# Altium footprint library custom-case.PcbLib: 16 footprints
Each footprint in its own frame and in the unit in brackets; x right, y up, seen from the top. Pads: shape width x height; smd on the part's side, far side on the other; paste and mask are expansions set on the pad; w line width, h text height; cw(c..) or ccw(c..) is an arc to the next point about the centre after c.
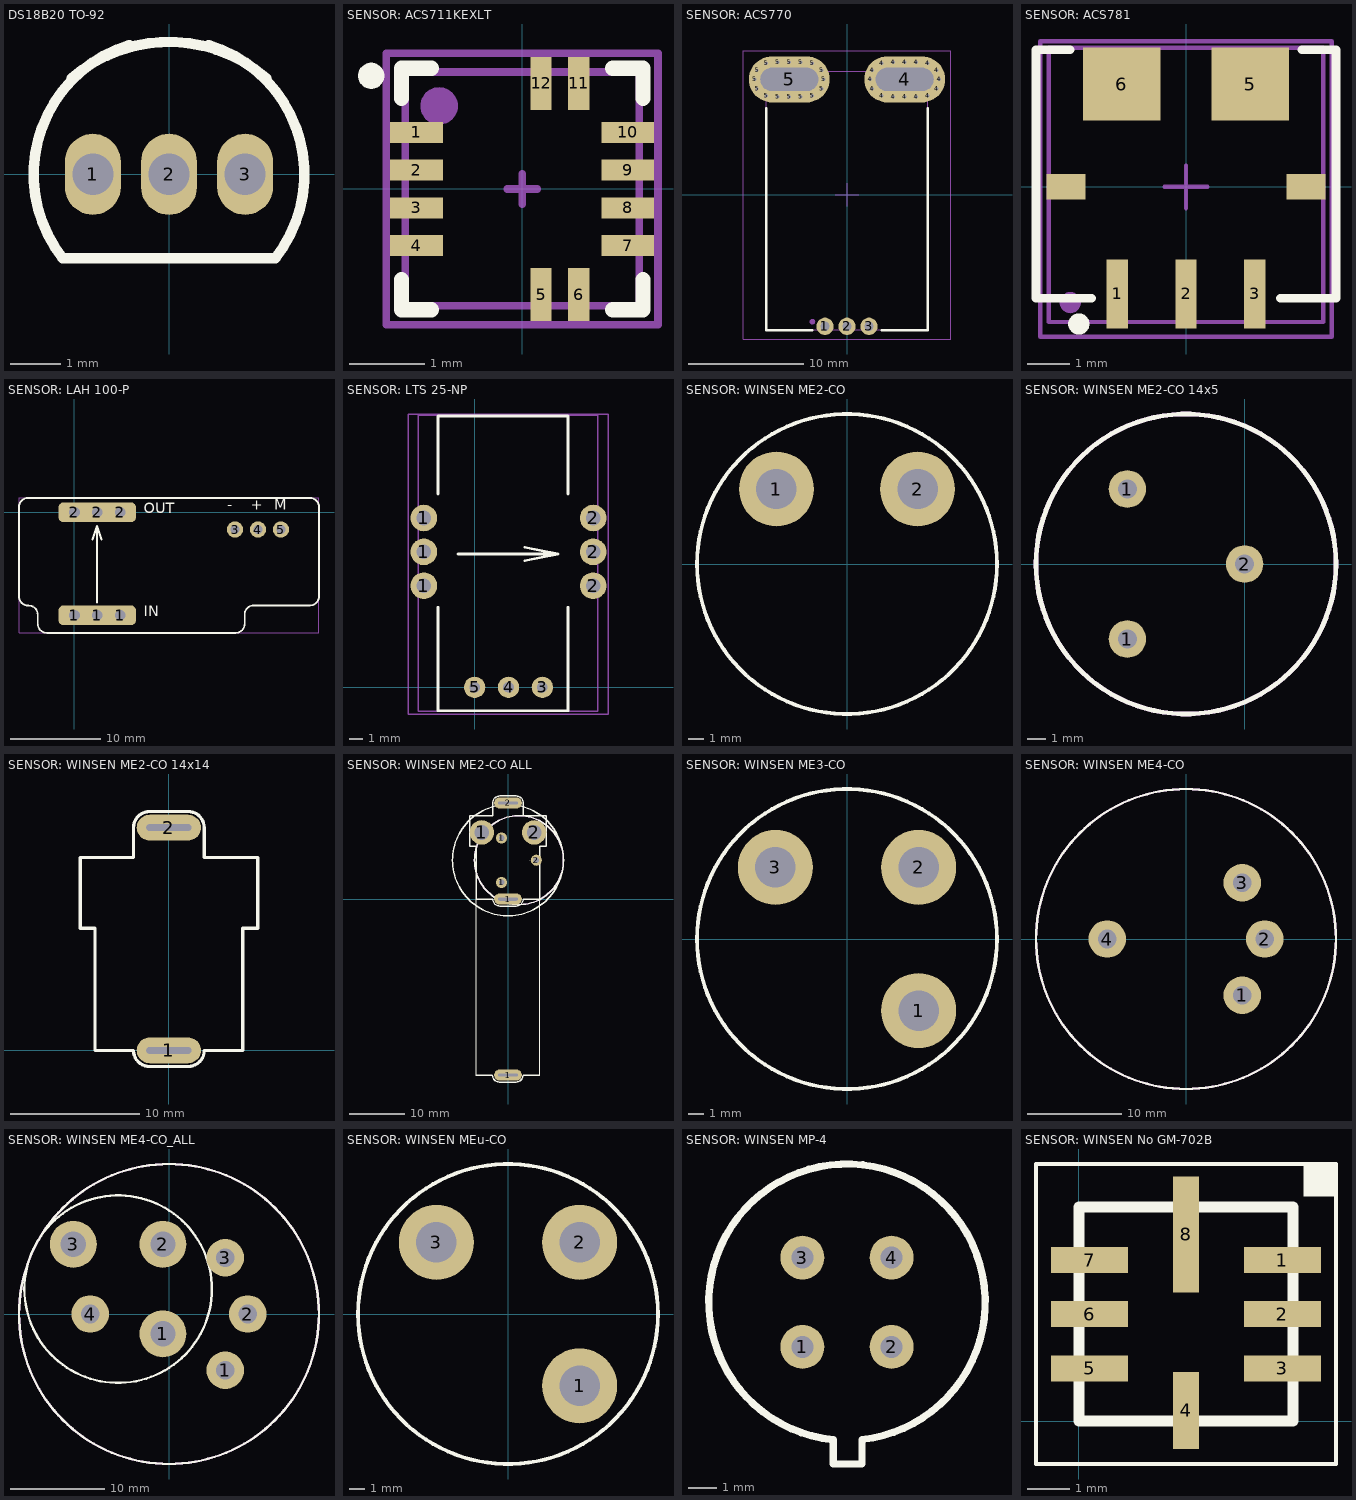
[diagram p0: the footprints below, top view; thin cyan lines are the x and y axes]

## DS18B20 TO-92 [mm]
pads (3):
  oval 1.1x1.6 hole 0.813 mask+0.102: 1(-1.5,0) 2(0,0) 3(1.5,0)
Top Overlay:
  lines w0.203: -2.102,-1.642 cw(c0,0) -0.78,2.551 ; -2.094,-1.651 2.094,-1.651 ; -1.92,1.892 cw(c0,-0.318) 0.658,2.535 ; -0.658,2.535 cw(c0,-0.318) 0.658,2.535 ; 0.78,2.55 cw(c0,0) 2.102,-1.642 ; 1.92,1.892 ccw(c0,-0.318) 0.658,2.535
3D body "step_temp.STEP": height 16.45, standoff -4, extent -2.277,-1.143 2.277,2.476

## SENSOR: ACS711KEXLT [mm]
pads (14):
  rect 0.7x0.28 smd: 1(-1.4,0.75) 2(-1.4,0.25) 3(-1.4,-0.25) 4(-1.4,-0.75) 7(1.4,-0.75) 8(1.4,-0.25) 9(1.4,0.25) 10(1.4,0.75)
  rect 0.28x0.7 smd: 5(0.25,-1.4) 6(0.75,-1.4) 11(0.75,1.4) 12(0.25,1.4)
  round 0.35 on Top Overlay: ""(-2,1.5)
  round 0.5 on Mech1: ""(-1.1,1.1)
Top Overlay:
  lines w0.2: -1.6,-1.2 -1.6,-1.6 -1.2,-1.6 ; -1.6,1.2 -1.6,1.6 -1.2,1.6 ; 1.2,-1.6 1.6,-1.6 1.6,-1.2 ; 1.2,1.6 1.6,1.6 1.6,1.2
Top Assy:
  lines w0.1: -1.55,-1.55 1.55,-1.55 1.55,1.55 -1.55,1.55 -1.55,-1.55
Size Area:
  lines w0.1: -0.2,0 0.2,0 ; 0,-0.2 0,0.2 ; -1.8,-1.8 -1.8,1.8 1.8,1.8 1.8,-1.8 -1.8,-1.8
3D body "User Library-QFN-16.STEP": height 0.9, standoff 0, extent -1.501,-1.501 1.501,1.501

## SENSOR: ACS770 [mm]
pads (38):
  round 1.5 hole 0.8: 1(-1.91,-11.4) 2(0,-11.4) 3(1.91,-11.4)
  round 0.5 on Mech1: 4(-3,-11)
  round 0.7 hole 0.3: 4(2,10) 4(2.2,9.2) 4(2.2,10.8) 4(3,8.6) 4(3,11.4) 4(4,8.5) 4(4,11.5) 4(5,8.5) 4(5,11.5) 4(6,8.5) 4(6,11.5) 4(7,8.6) 4(7,11.4) 4(7.8,9.2) 4(7.8,10.8) 4(8,10) 5(-8,10) 5(-7.8,9.2) 5(-7.8,10.8) 5(-7,8.6) 5(-7,11.4) 5(-6,8.5) 5(-6,11.5) 5(-5,8.5) 5(-5,11.5) 5(-4,8.5) 5(-4,11.5) 5(-3,8.6) 5(-3,11.4) 5(-2.2,9.2) 5(-2.2,10.8) 5(-2,10)
  oval 7x4 hole 2 slot 5 at 0 deg: 4(5,10) 5(-5,10)
Top Overlay:
  lines w0.2: -7,7.5 -7,-11.75 -3,-11.75 ; 3,-11.75 7,-11.75 7,7.5
Top Assy:
  lines w0.1: -7,-11.705 -7,10.705 7,10.705 7,-11.705 -7,-11.705
Size Area:
  lines w0.1: -1,0 1,0 ; 0,-1 0,1 ; -9,-12.5 -9,12.5 9,12.5 9,-12.5 ; -9,-12.5 9,-12.5 ; -9,-12.5 9,-12.5
3D body "User Library-ACS758xCB-PFF.STEP": height 7.5, standoff -2.98, extent -7,-11.705 7,10.705

## SENSOR: ACS781 [mm]
pads (9):
  rect 0.5x1.6 smd: 1(-1.6,-2.5) 2(0,-2.5) 3(1.6,-2.5)
  rect 1.8x1.7 smd: 5(1.5,2.4) 6(-1.5,2.4)
  rect 0.9x0.6 smd: ""(-2.8,0) ""(2.8,0)
  round 0.5 on Mech1: ""(-2.7,-2.7)
  round 0.5 on Top Overlay: ""(-2.5,-3.2)
Top Overlay:
  lines w0.2: -2.7,3.2 -3.5,3.2 -3.5,-2.6 -2.2,-2.6 ; 2.2,-2.6 3.5,-2.6 3.5,3.2 2.7,3.2
Top Assy:
  lines w0.1: -3.2,-3.154 3.2,-3.154 3.2,3.246 -3.2,3.246 -3.2,-3.154
Size Area:
  lines w0.1: -0.5,0 0.5,0 ; 0,-0.5 0,0.5 ; -3.4,-3.5 -3.4,3.4 3.4,3.4 3.4,-3.5 -3.4,-3.5
3D body "User Library-7-Pin PSOF Package.STEP": height 1.46, standoff -0.02, extent -3.2,-3.154 3.2,3.246

## SENSOR: LAH 100-P [mm]
pads (9):
  rrect50% 3.5x2.2 hole 1.2 square: 1(0,-11.4) 1(2.54,-11.4) 1(5.08,-11.4) 2(0,0) 2(2.54,0) 2(5.08,0)
  round 1.8 hole 1: 3(17.78,-1.905) 4(20.32,-1.905) 5(22.86,-1.905)
Top Overlay:
  lines w0.2: -6.125,0.595 cw(c-5.125,0.595) -5.125,1.595 26.075,1.595 cw(c26.075,0.595) 27.075,0.595 27.075,-9.302 ; -6.125,0.6 -6.125,-9.325 ccw(c-5.125,-9.325) -5.125,-10.325 -5.05,-10.325 cw(c-5.05,-11.325) -4.05,-11.325 -4.05,-12.345 ccw(c-3.05,-12.345) -3.05,-13.345 17.85,-13.345 ccw(c17.85,-12.345) 18.85,-12.345 18.85,-11.3 cw(c19.85,-11.3) 19.85,-10.3 26.075,-10.3 ccw(c26.075,-9.3) 27.075,-9.3 ; 2,-3 2.5,-1.5 ; 2.5,-10 2.5,-1.5 ; 3,-3 2.5,-1.5
  text "M" at 22.1,-0.1 h2
  text "+" at 19.5,-0.1 h2
  text "-" at 16.9,-0.1 h2
  text "OUT" at 7.7,-0.5 h2
  text "IN" at 7.7,-11.9 h2
Top Assy:
  lines w0.1: -6.125,-13.345 27.075,-13.345 27.075,1.595 -6.125,1.595 -6.125,-13.345
Size Area:
  lines w0.1: -6.125,-13.345 27.075,-13.345 27.075,1.595 -6.125,1.595 -6.125,-13.345
3D body "TransCurrent v4.step": height 20.15, standoff -4.45, extent -6.125,-13.345 27.075,1.595

## SENSOR: LTS 25-NP [mm]
pads (9):
  round 2 hole 1.1: 1(-3.81,7.62) 1(-3.81,10.16) 1(-3.81,12.7) 2(8.89,7.62) 2(8.89,10.16) 2(8.89,12.7)
  round 1.6 hole 0.8: 3(5.08,0) 4(2.54,0) 5(0,0)
Top Overlay:
  lines w0.2: -2.75,6 -2.75,-1.75 7,-1.75 7,6 ; -2.75,14.5 -2.75,20.35 7,20.35 7,14.5 ; -1.25,10 6.25,10 ; 3.75,9.5 6.25,10 ; 3.75,10.5 6.25,10
Top Assy:
  lines w0.1: -4.25,-1.8 9.25,-1.8 9.25,20.4 -4.25,20.4 -4.25,-1.8
Size Area:
  lines w0.1: -5,-2 10,-2 10,20.5 -5,20.5 -5,-2
3D body "User Library-LTS6_NP.STEP": height 24, standoff -3.5, extent -4.25,-1.8 9.25,20.4

## SENSOR: WINSEN ME2-CO [mm] "Flammable gas sensor"
pads (2):
  round 5 hole 2.7: 1(-4.7,5) 2(4.7,5)
Top Overlay:
  circle w0.254: c0,0 r10
3D body "WINSEN ME2-CO.STEP": height 16.5, standoff -4.05, extent -10,-10 10,10

## SENSOR: WINSEN ME2-CO 14x5 [mm] "Flammable gas sensor"
pads (3):
  round 2 hole 1: 1(-6.25,-4) 1(-6.25,4) 2(0,0)
Top Overlay:
  circle w0.254: c-3.125,0 r8
Size Area:
  circle w0.254: c-3.125,0 r8

## SENSOR: WINSEN ME2-CO 14x14 [mm] "Carbon Monoxide sensor"
pads (2):
  oval 5x2 hole 0.5 slot 3.5 at 0 deg: 1(0,0) 2(0,17.32)
Top Overlay:
  lines w0.254: -2.75,-0.018 ccw(c-1.5,0) -1.5,-1.25 1.5,-1.25 ccw(c1.5,0) 2.75,-0.018 ; -2.75,-0.01 -5.75,-0.01 -5.75,8.66 -5.75,9.5 -6.88,9.5 -6.88,12.25 -6.88,15 -2.75,15 -2.75,17.32 cw(c-1.5,17.32) -1.5,18.57 1.5,18.57 cw(c1.5,17.32) 2.75,17.32 2.75,15 6.9,15 6.9,12.25 6.9,9.5 5.75,9.5 5.75,8.66 ; 2.75,-0.01 5.75,-0.01 5.75,8.66
Multi-Layer:
  pour cut-out: -1.5,14.32 1.5,14.32 1.736,14.32 2.203,14.394 2.652,14.54 3.072,14.754 3.454,15.032 3.788,15.366 4.066,15.748 4.28,16.168 4.426,16.617 4.5,17.084 4.5,17.556 4.426,18.023 4.28,18.472 4.066,18.892 3.788,19.274 3.454,19.608 3.072,19.886 2.652,20.1 2.203,20.246 1.736,20.32 1.5,20.32 -1.5,20.32 -1.736,20.32 -2.203,20.246 -2.652,20.1 -3.072,19.886 -3.454,19.608 -3.788,19.274 -4.066,18.892 -4.28,18.472 -4.426,18.023 -4.5,17.556 -4.5,17.084 -4.426,16.617 -4.28,16.168 -4.066,15.748 -3.788,15.366 -3.454,15.032 -3.072,14.754 -2.652,14.54 -2.203,14.394 -1.736,14.32
  pour cut-out: -1.5,-3 1.5,-3 1.736,-3 2.203,-2.926 2.652,-2.78 3.072,-2.566 3.454,-2.288 3.788,-1.954 4.066,-1.572 4.28,-1.152 4.426,-0.703 4.5,-0.236 4.5,0.236 4.426,0.703 4.28,1.152 4.066,1.572 3.788,1.954 3.454,2.288 3.072,2.566 2.652,2.78 2.203,2.926 1.736,3 1.5,3 -1.5,3 -1.736,3 -2.203,2.926 -2.652,2.78 -3.072,2.566 -3.454,2.288 -3.788,1.954 -4.066,1.572 -4.28,1.152 -4.426,0.703 -4.5,0.236 -4.5,-0.236 -4.426,-0.703 -4.28,-1.152 -4.066,-1.572 -3.788,-1.954 -3.454,-2.288 -3.072,-2.566 -2.652,-2.78 -2.203,-2.926 -1.736,-3
3D body "WINSENCO.SLDPRT": height 13.99, standoff -1.09, extent -6.997,0 6.997,17.505

## SENSOR: WINSEN ME2-CO ALL [mm] "Carbon Monoxide sensor"
pads (8):
  round 4.4 hole 2.65: 1(-4.7,12) 2(4.7,12)
  round 2 hole 1: 1(-1.156,3) 1(-1.156,11) 2(5.094,7)
  oval 5x2 hole 0.5 slot 3.5 at 0 deg: 1(0,-31.68) 1(0,0) 2(0,17.32)
Top Overlay:
  circle w0.254: c1.969,7 r8
  circle w0.254: c0,7 r10
  lines w0.01: 3.806,7.004 3.815,7.004
  lines w0.2: -5.791,-31.68 -5.75,-31.68 -5.75,-0.01 ; 5.708,-31.68 5.75,-31.68 5.75,-0.01
  lines w0.254: -5.791,-31.68 -2.791,-31.68 ; -2.791,-31.688 ccw(c-1.541,-31.67) -1.541,-32.92 1.459,-32.92 ccw(c1.459,-31.67) 2.709,-31.688 ; -2.75,-0.018 ccw(c-1.5,0) -1.5,-1.25 1.5,-1.25 ccw(c1.5,0) 2.75,-0.018 ; -2.75,-0.01 -5.75,-0.01 -5.75,8.66 -5.75,9.5 -6.88,9.5 -6.88,12.25 -6.88,15 -2.75,15 -2.75,17.32 cw(c-1.5,17.32) -1.5,18.57 1.5,18.57 cw(c1.5,17.32) 2.75,17.32 2.75,15 6.9,15 6.9,12.25 6.9,9.5 ; 2.709,-31.68 5.708,-31.68 ; 2.75,-0.01 5.75,-0.01 5.75,8.66 ; 5.75,8.66 5.75,9.5 6.88,9.5
Top Paste:
  lines w0.01: -2.426,2.853 cw(c-1.156,3) 0.123,3 ; 0.123,-3.009 -1.5,-3.009 -1.5,-3.014 1.5,-3.014 1.5,-3.009 ; 0.123,3.009 1.5,3.009
Size Area:
  circle w0.254: c1.969,7 r8
Multi-Layer:
  drawing of 5 lines, arcs and shapes, not listed
3D body "WINSEN ME2-CO.STEP": height 16.5, standoff -4.05, extent -10,-3 10,17

## SENSOR: WINSEN ME3-CO [mm] "Flammable gas sensor"
pads (3):
  round 5 hole 2.7: 1(4.775,-4.775) 2(4.775,4.775) 3(-4.775,4.775)
Top Overlay:
  circle w0.254: c0,0 r10
3D body "Model_MEu-CO.STEP": height 3.2, standoff -17.5, extent -10,-10 10,10

## SENSOR: WINSEN ME4-CO [mm] "Flammable gas sensor"
pads (4):
  round 4 hole 2: 1(6,-6) 2(8.4,0) 3(6,6) 4(-8.4,0)
Top Overlay:
  circle w0.254: c0,0 r16
Size Area:
  circle w0.254: c0,0 r16
3D body "Model_ME4-CO.STEP": height 16, standoff -3.7, extent -15.886,-15.951 16.114,16.049

## SENSOR: WINSEN ME4-CO_ALL [mm] "Flammable gas sensor"
pads (7):
  round 5 hole 2.7: 1(-0.648,-2.121) 2(-0.648,7.429) 3(-10.198,7.429)
  round 4 hole 2: 1(6,-6) 2(8.4,0) 3(6,6) 4(-8.4,0)
Top Overlay:
  circle w0.254: c0,0 r16
  circle w0.254: c-5.423,2.654 r10
Size Area:
  circle w0.254: c0,0 r16
3D body "Model_ME4-CO.STEP": height 16, standoff -3.7, extent -15.886,-15.951 16.114,16.049

## SENSOR: WINSEN MEu-CO [mm] "Flammable gas sensor"
pads (3):
  round 5 hole 2.7: 1(4.775,-4.788) 2(4.775,4.775) 3(-4.775,4.775)
Top Overlay:
  circle w0.254: c0,0 r10
3D body "Model_MEu-CO.STEP": height 3.2, standoff -17.5, extent -10,-10 10,10

## SENSOR: WINSEN MP-4 [mil] "Flammable gas sensor"
pads (4):
  round 60 hole 30: 1(184.65,343.31) 2(306.69,343.31) 3(184.65,465.35) 4(306.69,465.35)
Top Overlay:
  lines w10: 266.16,216.3 266.16,183.07 226.79,183.07 226.79,216.3 cw(c245.67,404.33) 266.14,216.47
3D body "WINSENCH4.SLDPRT": height 413.39, standoff -39.37, extent 60.71,187.8 430.62,589.37

## SENSOR: WINSEN No GM-702B [mm]
pads (8):
  rect 1.8x0.6 smd: 1(4.75,3.76) 2(4.75,2.5) 3(4.75,1.23) 5(0.25,1.23) 6(0.25,2.5) 7(0.25,3.76)
  rect 0.6x1.8 smd: 4(2.5,0.25)
  rect 0.6x2.7 smd: 8(2.5,4.356)
Top Overlay:
  region: 5.25,6 6,6 6,5.25 5.25,5.25
  lines w0.1: -1,-1 6,-1 6,6 -1,6 -1,-1
  lines w0.254: 0,0 5,0 5,5 0,5 0,0
3D body "Sensor_Model_No_GM_702B.STEP": height 1.5, standoff 0, extent 0,0 5,5